# EAGLE library part TC2030 (library EW_Connectors)
TC2030-Clip ICSP connector for PIC microcontrollers. Allows PIC programming without a pcb socket.
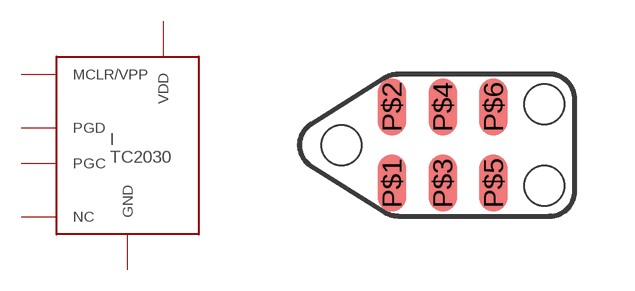
[diagram p13: symbol with the pads of TC2030-CLIP; footprint TC2030-CLIP]

Designator prefix I

## TC2030  [TC2030-CLIP]
P$1  MCLR/VPP  pas
P$2  VDD  pas
P$3  GND  pas
P$4  PGD  pas
P$5  PGC  pas
P$6  NC  pas

## Footprint TC2030-CLIP (pad centres in mm)
smd 0.711 x 1.422: P$1 -1.27,-0.953; P$2 -1.27,0.953; P$3 0,-0.953; P$4 0,0.953; P$5 1.27,-0.953; P$6 1.27,0.953
hole 1 at -2.54,0
hole 1 at 2.54,1.016
hole 1 at 2.54,-1.016